# Altium schematic symbol library SKYWORKS SKY65116.SchLib: 1 symbol
Pins are listed as number, name and electrical type; pins without a type are passive.

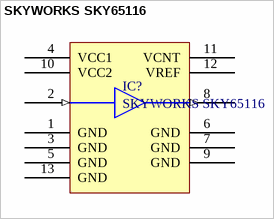
[diagram p0: symbol SKYWORKS SKY65116]

## SKYWORKS SKY65116
designator IC?
390-500 MHz Linear Power Amplifier
pins: 1 GND "Desc1", 2 IN (in) "Desc1", 3 GND "Desc1", 4 VCC1 "Desc1", 5 GND "Desc1", 6 GND "Desc1", 7 GND "Desc1", 8 OUT (out) "Desc1", 9 GND "Desc1", 10 VCC2 "Desc1", 11 VCNT "Desc1", 12 VREF "Desc1", 13 GND "Desc1"